# Altium integrated library 5-534237-8.IntLib: 1 symbol
Pins are listed as number, name and electrical type; pins without a type are passive.

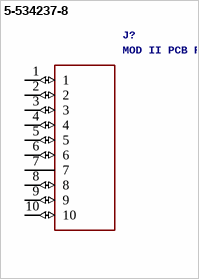
[diagram p0: symbol 5-534237-8]

## 5-534237-8
designator J?, comment MOD II PCB Receptacle 2.54mm 10 way TE Connectivity AMPMODU Mod II Series 2.54mm Pitch 10 Way 1 Row Straight PCB Socket, Through Hole, Solder TerminationSource:  Datasheet
GateName_1: G$1; SymbolName_1: 5-534237-8; Allied_Number: 70346596; LibraryName: 5-534237-8; DeviceSetName: 5-534237-8; Package: SHDR10W77P0X254_1X10_2540X354X; Manufacturer_Name: TE Connectivity; Manufacturer_Part_Number: 5-534237-8; RS_Part_Number: 7973233P; RS_Price-Stock: http://uk.rs-online.com/web/p/products/7973233P; Allied_Price-Stock: https://www.alliedelec.com/te-connectivity-5-534237-8/70346596/; Arrow_Part_Number: 5-534237-8; Arrow_Price-Stock: https://www.arrow.com/en/products/5-534237-8/te-connectivity; Description: MOD II PCB Receptacle 2.54mm 10 way TE Connectivity AMPMODU Mod II Series 2.54mm Pitch 10 Way 1 Row Straight PCB Socket, Through Hole, Solder Termination; Height: 8.77mm
footprint SHDR10W77P0X254_1X10_2540X354X
pins: 1 (io), 2 (io), 3 (io), 4 (io), 5 (io), 6 (io), 7 (power), 8 (io), 9 (io), 10 (io)